# EAGLE library part USB- (library LoganSmith-Connectors)
Various types of USB: Mini USB B: datasheet <http://www.molex.com/pdm_docs/sd/675031020_sd.pdf>
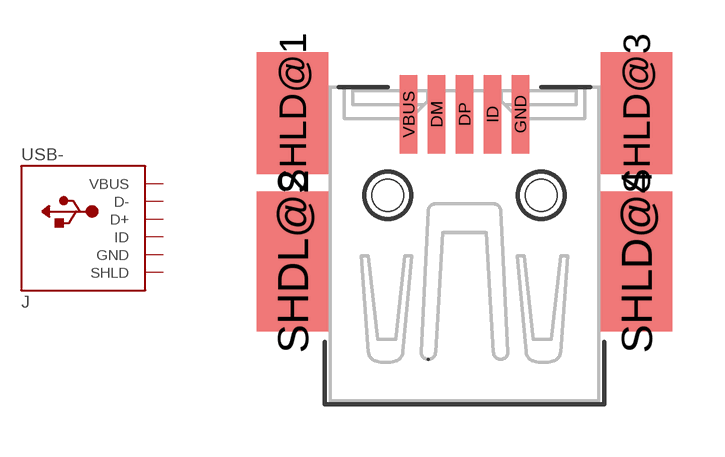
[diagram p4: symbol with the pads of USB-MINIB; footprint USB-MINIB]

Designator prefix J

## USB-B-MINI (DESC: Mini USB B female shielded RA 5pos; DIGKEY_OC: WM5461CT-ND; HEIGHT: 3.95mm; MFR: Molex Inc; MPN: 0675031020)  [USB-MINIB]
DM  D-
DP  D+
GND  GND  pwr
ID  ID
SHDL@2  SHLD  nc
SHLD@1  SHLD  nc
SHLD@3  SHLD  nc
SHLD@4  SHLD  nc
VBUS  VBUS  pwr

## Footprint USB-MINIB (pad centres in mm)
Surface Mount USB Mini-B Connector, based on Molex 67503-1020 footprint <http://www.molex.com/pdm_docs/sd/675031020_sd.pdf>
smd 0.5 x 2.25: DM -0.8,6.225; DP 0,6.225; GND 1.6,6.225; ID 0.8,6.225; VBUS -1.6,6.225
smd 2.05 x 4: SHDL@2 -4.925,2; SHLD@4 4.925,2
smd 2.05 x 3.5: SHLD@1 -4.925,6.25; SHLD@3 4.925,6.25
hole 0.9 at -2.2,3.9
hole 0.9 at 2.2,3.9